# Altium schematic symbol library Isolator.SchLib: 419 symbols (part 2 of 5)
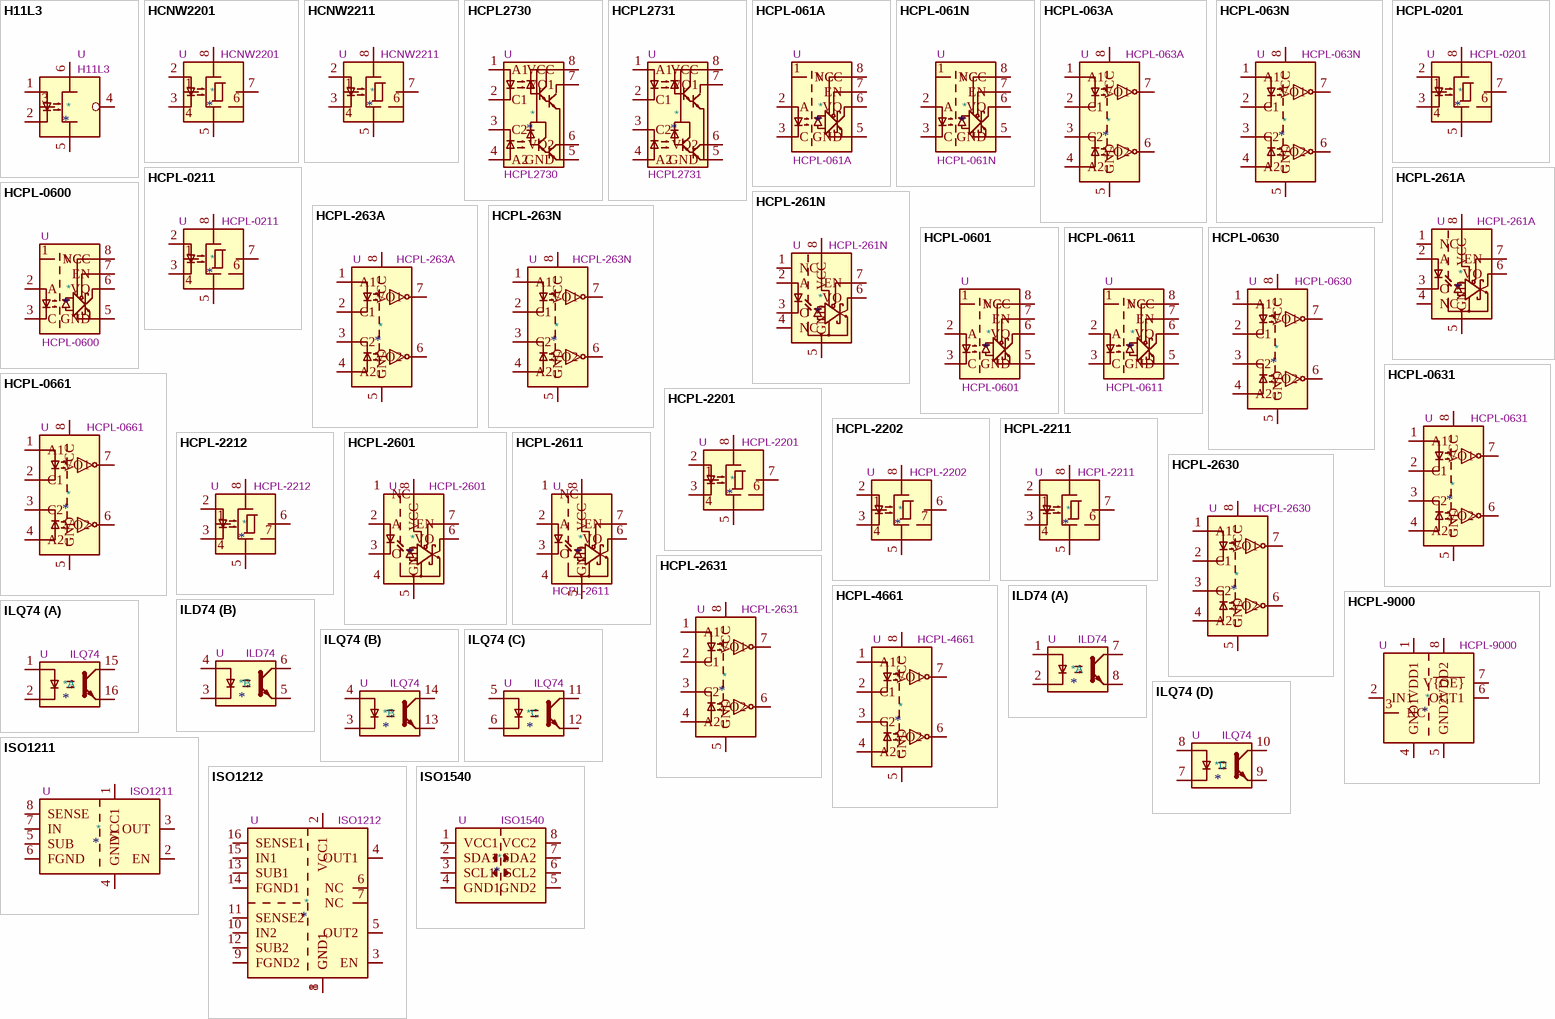
[diagram p13: symbols H11L3 to ISO1540]

## HCPL-0601
designator *  value HCPL-0601  Reference: U
Single High Speed LSTTL/TTL Compatible Optocoupler with enable, dV/dt 10000/us, VCM 1000, max 7V VCC, SOIC-8; ki_keywords: High speed optically coupled gates enable; ki_fp_filters: SOIC*3.9x4.9mm?P1.27mm*; Footprint: Package_SO:SOIC-8_3.9x4.9mm_P1.27mm; Datasheet: https://docs.broadcom.com/docs/AV02-0940EN; Description_: Single High Speed LSTTL/TTL Compatible Optocoupler with enable, dV/dt 10000/us, VCM 1000, max 7V VCC, SOIC-8
pins: 1 NC, 2 A, 3 C, 5 GND, 6 VO, 7 EN, 8 VCC

## HCPL-0611
designator *  value HCPL-0611  Reference: U
Single High Speed LSTTL/TTL Compatible Optocoupler with enable, dV/dt 15000/us, VCM 1000, max 7V VCC, SOIC-8; ki_keywords: High speed optically coupled gates enable; ki_fp_filters: SOIC*3.9x4.9mm?P1.27mm*; Footprint: Package_SO:SOIC-8_3.9x4.9mm_P1.27mm; Datasheet: https://docs.broadcom.com/docs/AV02-0940EN; Description_: Single High Speed LSTTL/TTL Compatible Optocoupler with enable, dV/dt 15000/us, VCM 1000, max 7V VCC, SOIC-8
pins: 1 NC, 2 A, 3 C, 5 GND, 6 VO, 7 EN, 8 VCC

## HCPL-0630
designator *  value HCPL-0630  Reference: U
Dual High Speed LSTTL/TTL Compatible Optocoupler, dV/dt 5000/us, VCM 1000, max 7V VCC, SOIC-8; ki_keywords: High speed optically coupled gates; ki_fp_filters: SOIC*3.9x4.9mm?P1.27mm*; Footprint: Package_SO:SOIC-8_3.9x4.9mm_P1.27mm; Datasheet: https://docs.broadcom.com/docs/AV02-0940EN; Description_: Dual High Speed LSTTL/TTL Compatible Optocoupler, dV/dt 5000/us, VCM 1000, max 7V VCC, SOIC-8
pins: 1 A1, 2 C1, 3 C2, 4 A2, 5 GND, 6 VO2, 7 VO1, 8 VCC

## HCPL-0631
designator *  value HCPL-0631  Reference: U
Dual High Speed LSTTL/TTL Compatible Optocoupler, dV/dt 10000/us, VCM 1000, max 7V VCC, SOIC-8; ki_keywords: High speed optically coupled gates; ki_fp_filters: SOIC*3.9x4.9mm?P1.27mm*; Footprint: Package_SO:SOIC-8_3.9x4.9mm_P1.27mm; Datasheet: https://docs.broadcom.com/docs/AV02-0940EN; Description_: Dual High Speed LSTTL/TTL Compatible Optocoupler, dV/dt 10000/us, VCM 1000, max 7V VCC, SOIC-8
pins: 1 A1, 2 C1, 3 C2, 4 A2, 5 GND, 6 VO2, 7 VO1, 8 VCC

## HCPL-0661
designator *  value HCPL-0661  Reference: U
Dual High Speed LSTTL/TTL Compatible Optocoupler, dV/dt 15000/us, VCM 1000, max 7V VCC, SOIC-8; ki_keywords: High speed optically coupled gates; ki_fp_filters: SOIC*3.9x4.9mm?P1.27mm*; Footprint: Package_SO:SOIC-8_3.9x4.9mm_P1.27mm; Datasheet: https://docs.broadcom.com/docs/AV02-0940EN; Description_: Dual High Speed LSTTL/TTL Compatible Optocoupler, dV/dt 15000/us, VCM 1000, max 7V VCC, SOIC-8
pins: 1 A1, 2 C1, 3 C2, 4 A2, 5 GND, 6 VO2, 7 VO1, 8 VCC

## HCPL-2201
designator *  value HCPL-2201  Reference: U
Opto Coupler, 1kV/us, 50V CMR, Schmitt trigger output, DIP-8; ki_keywords: opto coupler schmitt output; ki_fp_filters: DIP*W7.62mm*; Footprint: Package_DIP:DIP-8_W7.62mm; Datasheet: https://docs.broadcom.com/docs/AV02-0674EN; Description_: Opto Coupler, 1kV/us, 50V CMR, Schmitt trigger output, DIP-8
pins: 1, 2, 3, 4, 5, 6, 7, 8

## HCPL-2202
designator *  value HCPL-2202  Reference: U
Opto Coupler, 1kV/us, 50V CMR, Schmitt trigger output, DIP-8; ki_keywords: opto coupler schmitt output; ki_fp_filters: DIP*W7.62mm*; Footprint: Package_DIP:DIP-8_W7.62mm; Datasheet: https://docs.broadcom.com/docs/AV02-0674EN; Description_: Opto Coupler, 1kV/us, 50V CMR, Schmitt trigger output, DIP-8
pins: 1, 2, 3, 4, 5, 6, 7, 8

## HCPL-2211
designator *  value HCPL-2211  Reference: U
Opto Coupler, 5kV/us, 300V CMR, Schmitt trigger output, DIP-8; ki_keywords: opto coupler schmitt output; ki_fp_filters: DIP*W7.62mm*; Footprint: Package_DIP:DIP-8_W7.62mm; Datasheet: https://docs.broadcom.com/docs/AV02-0674EN; Description_: Opto Coupler, 5kV/us, 300V CMR, Schmitt trigger output, DIP-8
pins: 1, 2, 3, 4, 5, 6, 7, 8

## HCPL-2212
designator *  value HCPL-2212  Reference: U
Opto Coupler, 5kV/us, 300V CMR, Schmitt trigger output, DIP-8; ki_keywords: opto coupler schmitt output; ki_fp_filters: DIP*W7.62mm*; Footprint: Package_DIP:DIP-8_W7.62mm; Datasheet: https://docs.broadcom.com/docs/AV02-0674EN; Description_: Opto Coupler, 5kV/us, 300V CMR, Schmitt trigger output, DIP-8
pins: 1, 2, 3, 4, 5, 6, 7, 8

## HCPL-2601
designator *  value HCPL-2601  Reference: U
Single High Speed LSTTL/TTL Compatible Optocoupler with enable, dV/dt 10000V/us, VCM 1000, max 7V VCC, DIP-8; ki_keywords: High speed optically coupled gates enable; ki_fp_filters: DIP*W7.62mm*; Footprint: Package_DIP:DIP-8_W7.62mm; Datasheet: https://docs.broadcom.com/doc/6N137-HCNW137-2601-2611-HCPL-0600-0601-0611-0630-0631-0661-2601-2611-2630-2631-4661-High-CMR-High-Speed-TTL-Compatible-Optocouplers-DS; Description_: Single High Speed LSTTL/TTL Compatible Optocoupler with enable, dV/dt 10000V/us, VCM 1000, max 7V VCC, DIP-8
pins: 1 NC, 2 A, 3 C, 4, 5 GND, 6 VO, 7 EN, 8 VCC

## HCPL-2611
designator *  value HCPL-2611  Reference: U
Single High Speed LSTTL/TTL Compatible Optocoupler with enable, dV/dt 15000V/us, VCM 1000, max 7V VCC, DIP-8; ki_keywords: High speed optically coupled gates enable; ki_fp_filters: DIP*W7.62mm*; Footprint: Package_DIP:DIP-8_W7.62mm; Datasheet: https://docs.broadcom.com/doc/6N137-HCNW137-2601-2611-HCPL-0600-0601-0611-0630-0631-0661-2601-2611-2630-2631-4661-High-CMR-High-Speed-TTL-Compatible-Optocouplers-DS; Description_: Single High Speed LSTTL/TTL Compatible Optocoupler with enable, dV/dt 15000V/us, VCM 1000, max 7V VCC, DIP-8
pins: 1 NC, 2 A, 3 C, 4, 5 GND, 6 VO, 7 EN, 8 VCC

## HCPL-2630
designator *  value HCPL-2630  Reference: U
Dual High Speed LSTTL/TTL Compatible Optocoupler, dV/dt 5000/us, VCM 1000, max 7V VCC, DIP-8; ki_keywords: High speed optically coupled gates; ki_fp_filters: DIP*W7.62mm*; Footprint: Package_DIP:DIP-8_W7.62mm; Datasheet: https://docs.broadcom.com/docs/AV02-0940EN; Description_: Dual High Speed LSTTL/TTL Compatible Optocoupler, dV/dt 5000/us, VCM 1000, max 7V VCC, DIP-8
pins: 1 A1, 2 C1, 3 C2, 4 A2, 5 GND, 6 VO2, 7 VO1, 8 VCC

## HCPL-2631
designator *  value HCPL-2631  Reference: U
Dual High Speed LSTTL/TTL Compatible Optocoupler, dV/dt 10000/us, VCM 1000, max 7V VCC, DIP-8; ki_keywords: High speed optically coupled gates; ki_fp_filters: DIP*W7.62mm*; Footprint: Package_DIP:DIP-8_W7.62mm; Datasheet: https://docs.broadcom.com/docs/AV02-0940EN; Description_: Dual High Speed LSTTL/TTL Compatible Optocoupler, dV/dt 10000/us, VCM 1000, max 7V VCC, DIP-8
pins: 1 A1, 2 C1, 3 C2, 4 A2, 5 GND, 6 VO2, 7 VO1, 8 VCC

## HCPL-4661
designator *  value HCPL-4661  Reference: U
Dual High Speed LSTTL/TTL Compatible Optocoupler, dV/dt 15000/us, VCM 1000, max 7V VCC, DIP-8; ki_keywords: High speed optically coupled gates; ki_fp_filters: DIP*W7.62mm*; Footprint: Package_DIP:DIP-8_W7.62mm; Datasheet: https://docs.broadcom.com/docs/AV02-0940EN; Description_: Dual High Speed LSTTL/TTL Compatible Optocoupler, dV/dt 15000/us, VCM 1000, max 7V VCC, DIP-8
pins: 1 A1, 2 C1, 3 C2, 4 A2, 5 GND, 6 VO2, 7 VO1, 8 VCC

## HCPL-9000
designator *  value HCPL-9000  Reference: U
High Speed Digital Isolator, CMOS, excellent transient immunity, active-low logic output enable, DIP-8; ki_keywords: digital isolator, high speed; ki_fp_filters: DIP*W7.62mm*; Footprint: Package_DIP:DIP-8_W7.62mm; Datasheet: https://docs.broadcom.com/docs/AV02-0137EN; Description_: High Speed Digital Isolator, CMOS, excellent transient immunity, active-low logic output enable, DIP-8
pins: 1 VDD1, 2 IN1, 3 NC, 4 GND1, 5 GND2, 6 OUT1, 7 V~{{OE}}, 8 VDD2

## ILD74
designator *  value ILD74  Reference: U
Dual Optocoupler, NPN Phototransistor Output, TTL compatible, DIP8/SMD8; ki_keywords: NPN DC Dual Optocoupler; ki_fp_filters: DIP*W7.62mm* DIP*W10.16mm* SMDIP*W9.53mm*Clearance8mm*; Datasheet: https://www.vishay.com/docs/83640/ild74.pdf; Description_: Dual Optocoupler, NPN Phototransistor Output, TTL compatible, DIP8/SMD8
part A pins: 1, 2, 7, 8
part B pins: 3, 4, 5, 6

## ILQ74
designator *  value ILQ74  Reference: U
Quad Optocoupler, NPN Phototransistor Output, TTL compatible, DIP16/SMD16; ki_keywords: NPN DC Dual Optocoupler; ki_fp_filters: DIP*W7.62mm* DIP*W10.16mm* SMDIP*W9.53mm*Clearance8mm*; Datasheet: https://www.vishay.com/docs/83640/ild74.pdf; Description_: Quad Optocoupler, NPN Phototransistor Output, TTL compatible, DIP16/SMD16
part A pins: 1, 2, 15, 16
part B pins: 3, 4, 13, 14
part C pins: 5, 6, 11, 12
part D pins: 7, 8, 9, 10

## ISO1211
designator *  value ISO1211  Reference: U
Isolated, 1 Channel, 24 to 60V Digital Input Receiver, SOIC-8; ki_keywords: isolated digital input; ki_fp_filters: SOIC*3.9x4.9mm*P1.27mm*; Footprint: Package_SO:SOIC-8_3.9x4.9mm_P1.27mm; Datasheet: http://www.ti.com/lit/ds/symlink/iso1211.pdf; Description_: Isolated, 1 Channel, 24 to 60V Digital Input Receiver, SOIC-8
pins: 1 VCC1, 2 EN, 3 OUT, 4 GND1, 5 SUB, 6 FGND, 7 IN, 8 SENSE

## ISO1212
designator *  value ISO1212  Reference: U
Isolated, 2 Channels, 24 to 60V Digital Inputs Receiver, SSOP-16; ki_keywords: isolated digital input; ki_fp_filters: SSOP*3.9x4.9mm*P0.635mm*; Footprint: Package_SO:SSOP-16_3.9x4.9mm_P0.635mm; Datasheet: http://www.ti.com/lit/ds/symlink/iso1212.pdf; Description_: Isolated, 2 Channels, 24 to 60V Digital Inputs Receiver, SSOP-16
pins: 1 GND1, 2 VCC1, 3 EN, 4 OUT1, 5 OUT2, 6 NC, 7 NC, 8 GND1, 9 FGND2, 10 IN2, 11 SENSE2, 12 SUB2, 13 SUB1, 14 FGND1, 15 IN1, 16 SENSE1

## ISO1540
designator *  value ISO1540  Reference: U
I2C Isolator, 2.5 kVrms, Bidirectional clock and data, SOIC-8; ki_keywords: digital isolator i2c; ki_fp_filters: SOIC*3.9x4.9mm*P1.27mm*; Footprint: Package_SO:SOIC-8_3.9x4.9mm_P1.27mm; Datasheet: http://www.ti.com/lit/ds/symlink/iso1541.pdf; Description_: I2C Isolator, 2.5 kVrms, Bidirectional clock and data, SOIC-8
pins: 1 VCC1, 2 SDA1, 3 SCL1, 4 GND1, 5 GND2, 6 SCL2, 7 SDA2, 8 VCC2

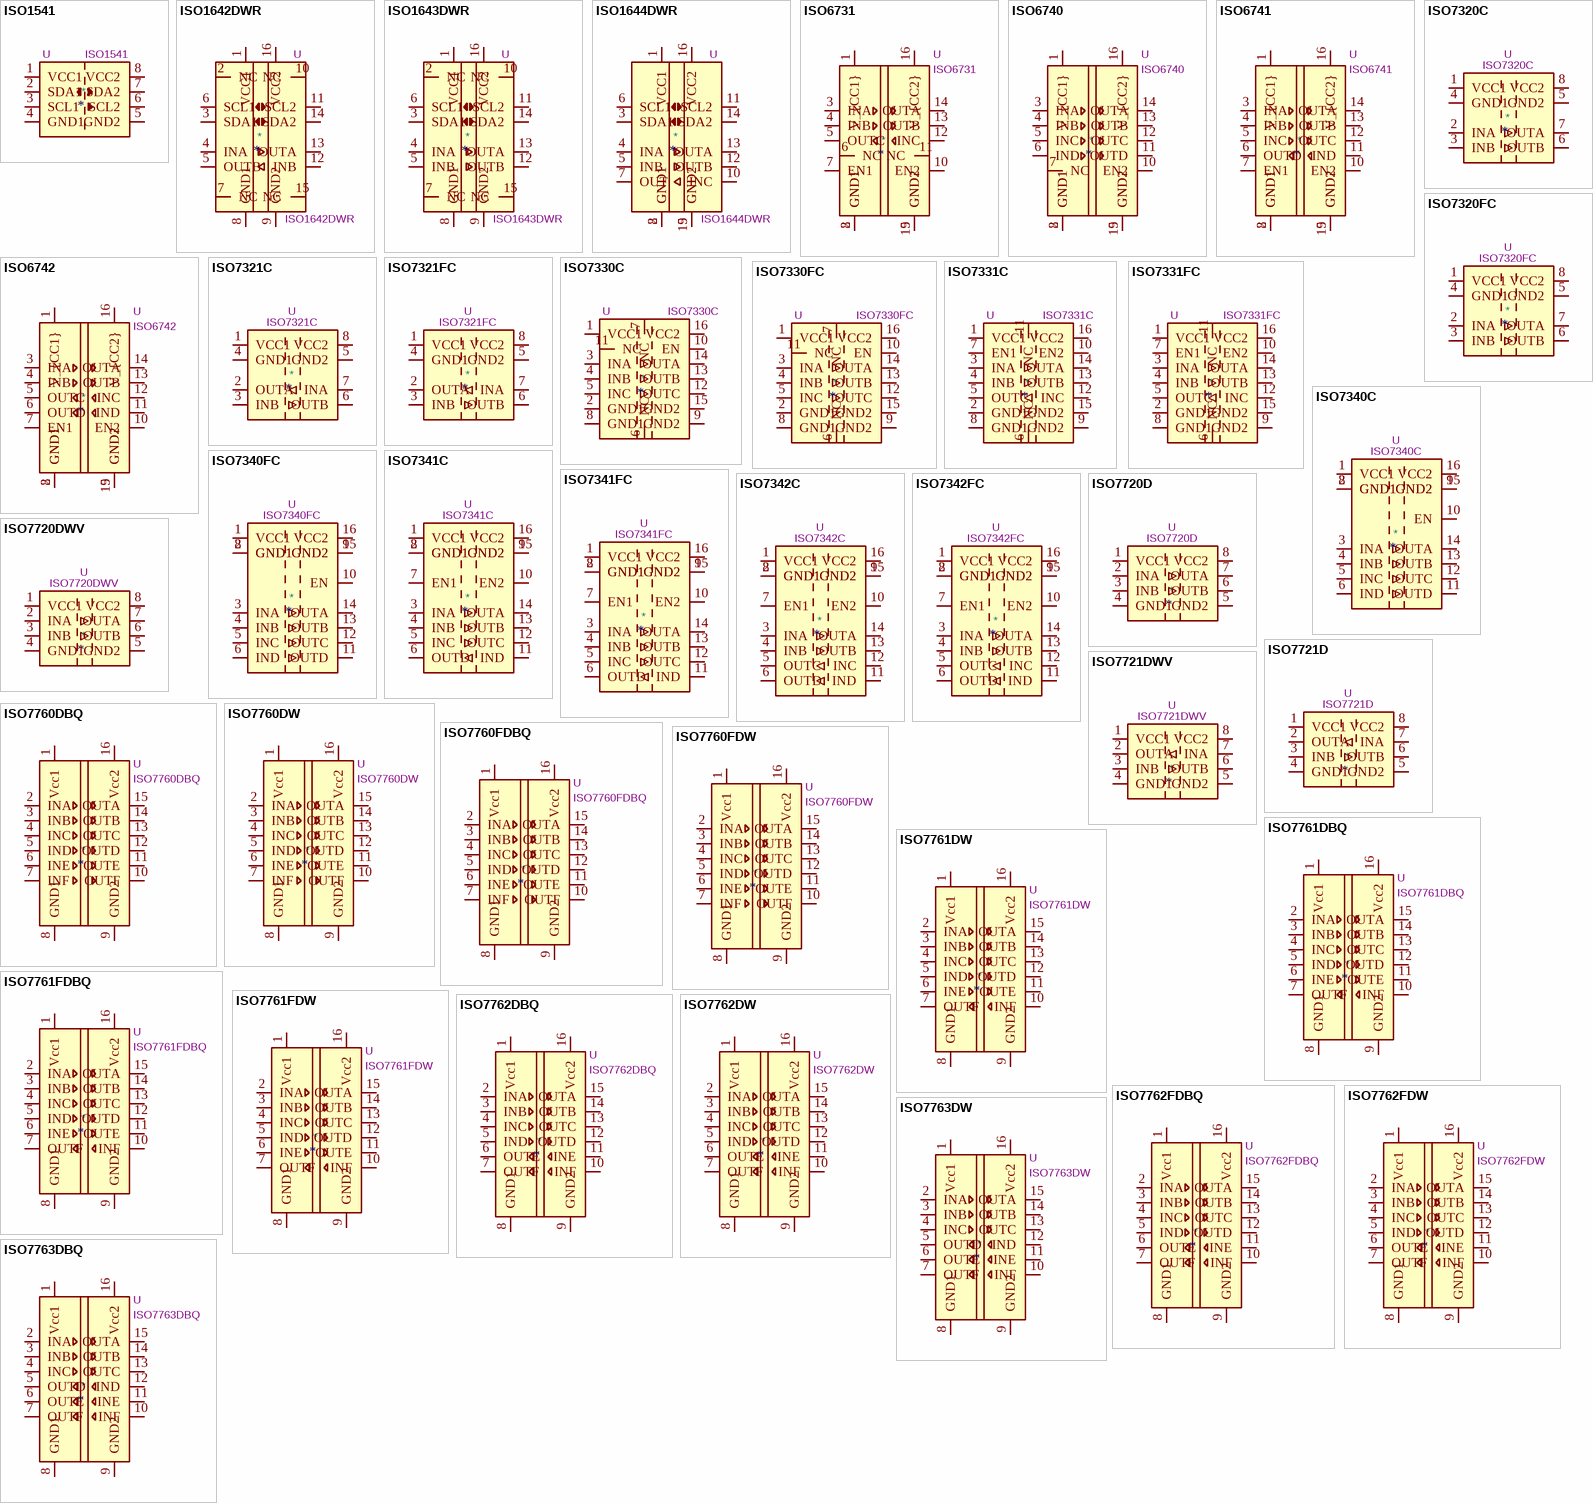
[diagram p3: symbols ISO1541 to ISO7763DW]

## ISO1541
designator *  value ISO1541  Reference: U
I2C Isolator, 2.5 kVrms, Unidirectional Clock, Bidirectional data, SOIC-8; ki_keywords: digital isolator i2c; ki_fp_filters: SOIC*3.9x4.9mm*P1.27mm*; Footprint: Package_SO:SOIC-8_3.9x4.9mm_P1.27mm; Datasheet: http://www.ti.com/lit/ds/symlink/iso1541.pdf; Description_: I2C Isolator, 2.5 kVrms, Unidirectional Clock, Bidirectional data, SOIC-8
pins: 1 VCC1, 2 SDA1, 3 SCL1, 4 GND1, 5 GND2, 6 SCL2, 7 SDA2, 8 VCC2

## ISO1642DWR
designator *  value ISO1642DWR  Reference: U
I2C Isolator with Bidirectional Clock and Data and two 1/1 Auxiliary GPIOs, SOIC-16; ki_keywords: i2c isolator additional gpio; ki_fp_filters: SOIC*7.5x10.3mm*P1.27mm*; Footprint: Package_SO:SOIC-16W_7.5x10.3mm_P1.27mm; Datasheet: https://www.ti.com/lit/ds/symlink/iso1642.pdf; Description_: I2C Isolator with Bidirectional Clock and Data and two 1/1 Auxiliary GPIOs, SOIC-16
pins: 1 VCC1, 2 NC, 3 SDA1, 4 INA, 5 OUTB, 6 SCL1, 7 NC, 8 GND1, 9 GND2, 10 NC, 11 SCL2, 12 INB, 13 OUTA, 14 SDA2, 15 NC, 16 VCC2

## ISO1643DWR
designator *  value ISO1643DWR  Reference: U
I2C Isolator with Bidirectional Clock and Data and two 2/0 Auxiliary GPIOs, SOIC-16; ki_keywords: i2c isolator additional gpio; ki_fp_filters: SOIC*7.5x10.3mm*P1.27mm*; Footprint: Package_SO:SOIC-16W_7.5x10.3mm_P1.27mm; Datasheet: https://www.ti.com/lit/ds/symlink/iso1643.pdf; Description_: I2C Isolator with Bidirectional Clock and Data and two 2/0 Auxiliary GPIOs, SOIC-16
pins: 1 VCC1, 2 NC, 3 SDA1, 4 INA, 5 INB, 6 SCL1, 7 NC, 8 GND1, 9 GND2, 10 NC, 11 SCL2, 12 OUTB, 13 OUTA, 14 SDA2, 15 NC, 16 VCC2

## ISO1644DWR
designator *  value ISO1644DWR  Reference: U
I2C Isolator with Bidirectional Clock and Data and three 2/1 Auxiliary GPIOs, SOIC-16; ki_keywords: i2c isolator additional gpio; ki_fp_filters: SOIC*7.5x10.3mm*P1.27mm*; Footprint: Package_SO:SOIC-16W_7.5x10.3mm_P1.27mm; Datasheet: https://www.ti.com/lit/ds/symlink/iso1644.pdf; Description_: I2C Isolator with Bidirectional Clock and Data and three 2/1 Auxiliary GPIOs, SOIC-16
pins: 1 VCC1, 2 GND1, 3 SDA1, 4 INA, 5 INB, 6 SCL1, 7 OUT, 8 GND1, 9 GND2, 10 INC, 11 SCL2, 12 OUTB, 13 OUTA, 14 SDA2, 15 GND2, 16 VCC2

## ISO6731
designator *  value ISO6731  Reference: U
General-purpose, triple-channel, 2/1, digital isolator; ki_keywords: 3 channel digital isolator; ki_fp_filters: SOIC*7.5x10.3mm*P1.27mm*; Footprint: Package_SO:SOIC-16W_7.5x10.3mm_P1.27mm; Datasheet: https://www.ti.com/lit/ds/symlink/iso6731.pdf; Description_: General-purpose, triple-channel, 2/1, digital isolator
pins: 1 V_{CC1}, 2 GND1, 3 INA, 4 INB, 5 OUTC, 6 NC, 7 EN1, 8 GND1, 9 GND2, 10 EN2, 11 NC, 12 INC, 13 OUTB, 14 OUTA, 15 GND2, 16 V_{CC2}

## ISO6740
designator *  value ISO6740  Reference: U
General-purpose, quad-channel, 4/0 digital isolator; ki_keywords: 4 channel digital isolator; ki_fp_filters: SOIC*7.5x10.3mm*P1.27mm*; Footprint: Package_SO:SOIC-16W_7.5x10.3mm_P1.27mm; Datasheet: https://www.ti.com/lit/ds/symlink/iso6740.pdf; Description_: General-purpose, quad-channel, 4/0 digital isolator
pins: 1 V_{CC1}, 2 GND1, 3 INA, 4 INB, 5 INC, 6 IND, 7 NC, 8 GND1, 9 GND2, 10 EN2, 11 OUTD, 12 OUTC, 13 OUTB, 14 OUTA, 15 GND2, 16 V_{CC2}

## ISO6741
designator *  value ISO6741  Reference: U
General-purpose, quad-channel, 3/1 digital isolator; ki_keywords: 4 channel digital isolator; ki_fp_filters: SOIC*7.5x10.3mm*P1.27mm*; Footprint: Package_SO:SOIC-16W_7.5x10.3mm_P1.27mm; Datasheet: https://www.ti.com/lit/ds/symlink/iso6741.pdf; Description_: General-purpose, quad-channel, 3/1 digital isolator
pins: 1 V_{CC1}, 2 GND1, 3 INA, 4 INB, 5 INC, 6 OUTD, 7 EN1, 8 GND1, 9 GND2, 10 EN2, 11 IND, 12 OUTC, 13 OUTB, 14 OUTA, 15 GND2, 16 V_{CC2}

## ISO6742
designator *  value ISO6742  Reference: U
General-purpose, quad-channel, 2/2 digital isolator; ki_keywords: 4 channel digital isolator; ki_fp_filters: SOIC*7.5x10.3mm*P1.27mm*; Footprint: Package_SO:SOIC-16W_7.5x10.3mm_P1.27mm; Datasheet: https://www.ti.com/lit/ds/symlink/iso6742.pdf; Description_: General-purpose, quad-channel, 2/2 digital isolator
pins: 1 V_{CC1}, 2 GND1, 3 INA, 4 INB, 5 OUTC, 6 OUTD, 7 EN1, 8 GND1, 9 GND2, 10 EN2, 11 IND, 12 INC, 13 OUTB, 14 OUTA, 15 GND2, 16 V_{CC2}

## ISO7320C
designator *  value ISO7320C  Reference: U
Low Power Dual-Channel 2/0 Digital Isolator, 25Mbps 33ns, Fail-Safe High, SO8; ki_keywords: 2Ch Dual Digital Isolator 25Mbps; ki_fp_filters: SO*; Footprint: Package_SO:SOIC-8_3.9x4.9mm_P1.27mm; Datasheet: http://www.ti.com/general/docs/lit/getliterature.tsp?genericPartNumber=iso7320c&fileType=pdf; Description_: Low Power Dual-Channel 2/0 Digital Isolator, 25Mbps 33ns, Fail-Safe High, SO8
pins: 1 VCC1, 2 INA, 3 INB, 4 GND1, 5 GND2, 6 OUTB, 7 OUTA, 8 VCC2

## ISO7320FC
designator *  value ISO7320FC  Reference: U
Low Power Dual-Channel 2/0 Digital Isolator, 25Mbps 33ns, Fail-Safe Low, SO8; ki_keywords: 2Ch Dual Digital Isolator 25Mbps; ki_fp_filters: SO*; Footprint: Package_SO:SOIC-8_3.9x4.9mm_P1.27mm; Datasheet: http://www.ti.com/general/docs/lit/getliterature.tsp?genericPartNumber=iso7320fc&fileType=pdf; Description_: Low Power Dual-Channel 2/0 Digital Isolator, 25Mbps 33ns, Fail-Safe Low, SO8
pins: 1 VCC1, 2 INA, 3 INB, 4 GND1, 5 GND2, 6 OUTB, 7 OUTA, 8 VCC2

## ISO7321C
designator *  value ISO7321C  Reference: U
Low Power Dual-Channel 1/1 Digital Isolator, 25Mbps 33ns, Fail-Safe High, SO8; ki_keywords: 2Ch Dual Digital Isolator 25Mbps; ki_fp_filters: SO*; Footprint: Package_SO:SOIC-8_3.9x4.9mm_P1.27mm; Datasheet: http://www.ti.com/general/docs/lit/getliterature.tsp?genericPartNumber=iso7321c&fileType=pdf; Description_: Low Power Dual-Channel 1/1 Digital Isolator, 25Mbps 33ns, Fail-Safe High, SO8
pins: 1 VCC1, 2 OUTA, 3 INB, 4 GND1, 5 GND2, 6 OUTB, 7 INA, 8 VCC2

## ISO7321FC
designator *  value ISO7321FC  Reference: U
Low Power Dual-Channel 1/1 Digital Isolator, 25Mbps 33ns, Fail-Safe Low, SO8; ki_keywords: 2Ch Dual Digital Isolator 25Mbps; ki_fp_filters: SO*; Footprint: Package_SO:SOIC-8_3.9x4.9mm_P1.27mm; Datasheet: http://www.ti.com/general/docs/lit/getliterature.tsp?genericPartNumber=iso7321fc&fileType=pdf; Description_: Low Power Dual-Channel 1/1 Digital Isolator, 25Mbps 33ns, Fail-Safe Low, SO8
pins: 1 VCC1, 2 OUTA, 3 INB, 4 GND1, 5 GND2, 6 OUTB, 7 INA, 8 VCC2

## ISO7330C
designator *  value ISO7330C  Reference: U
Low Power Quad-Channel 3/0 Digital Isolator, 25Mbps 31ns, Fail-Safe High, SO16; ki_keywords: 3Ch Quad Digital Isolator 25Mbps; ki_fp_filters: SOIC*7.5x10.3mm*P1.27mm*; Footprint: Package_SO:SOIC-16W_7.5x10.3mm_P1.27mm; Datasheet: http://www.ti.com/lit/ds/symlink/iso7330-q1.pdf; Description_: Low Power Quad-Channel 3/0 Digital Isolator, 25Mbps 31ns, Fail-Safe High, SO16
pins: 1 VCC1, 2 GND1, 3 INA, 4 INB, 5 INC, 6 NC, 7 NC, 8 GND1, 9 GND2, 10 EN, 11 NC, 12 OUTC, 13 OUTB, 14 OUTA, 15 GND2, 16 VCC2

## ISO7330FC
designator *  value ISO7330FC  Reference: U
Low Power Quad-Channel 3/0 Digital Isolator, 25Mbps 31ns, Fail-Safe Low, SO16; ki_keywords: 3Ch Quad Digital Isolator 25Mbps; ki_fp_filters: SOIC*7.5x10.3mm*P1.27mm*; Footprint: Package_SO:SOIC-16W_7.5x10.3mm_P1.27mm; Datasheet: http://www.ti.com/lit/ds/symlink/iso7330-q1.pdf; Description_: Low Power Quad-Channel 3/0 Digital Isolator, 25Mbps 31ns, Fail-Safe Low, SO16
pins: 1 VCC1, 2 GND1, 3 INA, 4 INB, 5 INC, 6 NC, 7 NC, 8 GND1, 9 GND2, 10 EN, 11 NC, 12 OUTC, 13 OUTB, 14 OUTA, 15 GND2, 16 VCC2

## ISO7331C
designator *  value ISO7331C  Reference: U
Low Power Quad-Channel 2/1 Digital Isolator, 25Mbps 31ns, Fail-Safe High, SO16; ki_keywords: 3Ch Quad Digital Isolator 25Mbps; ki_fp_filters: SOIC*7.5x10.3mm*P1.27mm*; Footprint: Package_SO:SOIC-16W_7.5x10.3mm_P1.27mm; Datasheet: http://www.ti.com/lit/ds/symlink/iso7331c.pdf; Description_: Low Power Quad-Channel 2/1 Digital Isolator, 25Mbps 31ns, Fail-Safe High, SO16
pins: 1 VCC1, 2 GND1, 3 INA, 4 INB, 5 OUTC, 6 NC, 7 EN1, 8 GND1, 9 GND2, 10 EN2, 11 NC, 12 INC, 13 OUTB, 14 OUTA, 15 GND2, 16 VCC2

## ISO7331FC
designator *  value ISO7331FC  Reference: U
Low Power Quad-Channel 2/1 Digital Isolator, 25Mbps 31ns, Fail-Safe Low, SO16; ki_keywords: 3Ch Quad Digital Isolator 25Mbps; ki_fp_filters: SOIC*7.5x10.3mm*P1.27mm*; Footprint: Package_SO:SOIC-16W_7.5x10.3mm_P1.27mm; Datasheet: http://www.ti.com/general/docs/lit/getliterature.tsp?genericPartNumber=iso7341c&fileType=pdf; Description_: Low Power Quad-Channel 2/1 Digital Isolator, 25Mbps 31ns, Fail-Safe Low, SO16
pins: 1 VCC1, 2 GND1, 3 INA, 4 INB, 5 OUTC, 6 NC, 7 EN1, 8 GND1, 9 GND2, 10 EN2, 11 NC, 12 INC, 13 OUTB, 14 OUTA, 15 GND2, 16 VCC2

## ISO7340C
designator *  value ISO7340C  Reference: U
Low Power Quad-Channel 4/0 Digital Isolator, 25Mbps 31ns, Fail-Safe High, SO16; ki_keywords: 4Ch Quad Digital Isolator 25Mbps; ki_fp_filters: SO*; Footprint: Package_SO:SOIC-16W_7.5x10.3mm_P1.27mm; Datasheet: http://www.ti.com/general/docs/lit/getliterature.tsp?genericPartNumber=iso7340c&fileType=pdf; Description_: Low Power Quad-Channel 4/0 Digital Isolator, 25Mbps 31ns, Fail-Safe High, SO16
pins: 1 VCC1, 2 GND1, 3 INA, 4 INB, 5 INC, 6 IND, 8 GND1, 9 GND2, 10 EN, 11 OUTD, 12 OUTC, 13 OUTB, 14 OUTA, 15 GND2, 16 VCC2

## ISO7340FC
designator *  value ISO7340FC  Reference: U
Low Power Quad-Channel 4/0 Digital Isolator, 25Mbps 31ns, Fail-Safe Low, SO16; ki_keywords: 4Ch Quad Digital Isolator 25Mbps; ki_fp_filters: SO*; Footprint: Package_SO:SOIC-16W_7.5x10.3mm_P1.27mm; Datasheet: http://www.ti.com/general/docs/lit/getliterature.tsp?genericPartNumber=iso7340fc&fileType=pdf; Description_: Low Power Quad-Channel 4/0 Digital Isolator, 25Mbps 31ns, Fail-Safe Low, SO16
pins: 1 VCC1, 2 GND1, 3 INA, 4 INB, 5 INC, 6 IND, 8 GND1, 9 GND2, 10 EN, 11 OUTD, 12 OUTC, 13 OUTB, 14 OUTA, 15 GND2, 16 VCC2

## ISO7341C
designator *  value ISO7341C  Reference: U
Low Power Quad-Channel 3/1 Digital Isolator, 25Mbps 31ns, Fail-Safe High, SO16; ki_keywords: 4Ch Quad Digital Isolator 25Mbps; ki_fp_filters: SO*; Footprint: Package_SO:SOIC-16W_7.5x10.3mm_P1.27mm; Datasheet: http://www.ti.com/general/docs/lit/getliterature.tsp?genericPartNumber=iso7341c&fileType=pdf; Description_: Low Power Quad-Channel 3/1 Digital Isolator, 25Mbps 31ns, Fail-Safe High, SO16
pins: 1 VCC1, 2 GND1, 3 INA, 4 INB, 5 INC, 6 OUTD, 7 EN1, 8 GND1, 9 GND2, 10 EN2, 11 IND, 12 OUTC, 13 OUTB, 14 OUTA, 15 GND2, 16 VCC2

## ISO7341FC
designator *  value ISO7341FC  Reference: U
Low Power Quad-Channel 3/1 Digital Isolator, 25Mbps 31ns, Fail-Safe Low, SO16; ki_keywords: 4Ch Quad Digital Isolator 25Mbps; ki_fp_filters: SO*; Footprint: Package_SO:SOIC-16W_7.5x10.3mm_P1.27mm; Datasheet: http://www.ti.com/general/docs/lit/getliterature.tsp?genericPartNumber=iso7341fc&fileType=pdf; Description_: Low Power Quad-Channel 3/1 Digital Isolator, 25Mbps 31ns, Fail-Safe Low, SO16
pins: 1 VCC1, 2 GND1, 3 INA, 4 INB, 5 INC, 6 OUTD, 7 EN1, 8 GND1, 9 GND2, 10 EN2, 11 IND, 12 OUTC, 13 OUTB, 14 OUTA, 15 GND2, 16 VCC2

## ISO7342C
designator *  value ISO7342C  Reference: U
Low Power Quad-Channel 2/2 Digital Isolator, 25Mbps 31ns, Fail-Safe High, SO16; ki_keywords: 4Ch Quad Digital Isolator 25Mbps; ki_fp_filters: SO*; Footprint: Package_SO:SOIC-16W_7.5x10.3mm_P1.27mm; Datasheet: http://www.ti.com/general/docs/lit/getliterature.tsp?genericPartNumber=iso7342c&fileType=pdf; Description_: Low Power Quad-Channel 2/2 Digital Isolator, 25Mbps 31ns, Fail-Safe High, SO16
pins: 1 VCC1, 2 GND1, 3 INA, 4 INB, 5 OUTC, 6 OUTD, 7 EN1, 8 GND1, 9 GND2, 10 EN2, 11 IND, 12 INC, 13 OUTB, 14 OUTA, 15 GND2, 16 VCC2

## ISO7342FC
designator *  value ISO7342FC  Reference: U
Low Power Quad-Channel 2/2 Digital Isolator, 25Mbps 31ns, Fail-Safe Low, SO16; ki_keywords: 4Ch Quad Digital Isolator 25Mbps; ki_fp_filters: SO*; Footprint: Package_SO:SOIC-16W_7.5x10.3mm_P1.27mm; Datasheet: http://www.ti.com/general/docs/lit/getliterature.tsp?genericPartNumber=iso7342fc&fileType=pdf; Description_: Low Power Quad-Channel 2/2 Digital Isolator, 25Mbps 31ns, Fail-Safe Low, SO16
pins: 1 VCC1, 2 GND1, 3 INA, 4 INB, 5 OUTC, 6 OUTD, 7 EN1, 8 GND1, 9 GND2, 10 EN2, 11 IND, 12 INC, 13 OUTB, 14 OUTA, 15 GND2, 16 VCC2

## ISO7720D
designator *  value ISO7720D  Reference: U
Low Power Dual-Channel 2/0 Digital Isolator, 100Mbps 11ns, Fail-Safe High, SOIC-8 (150mil); ki_keywords: 2Ch Dual Digital Isolator 100Mbps; ki_fp_filters: *SOIC*3.9x4.9mm*P1.27mm*; Footprint: Package_SO:SOIC-8_3.9x4.9mm_P1.27mm; Datasheet: https://www.ti.com/lit/ds/symlink/iso7720.pdf; Description_: Low Power Dual-Channel 2/0 Digital Isolator, 100Mbps 11ns, Fail-Safe High, SOIC-8 (150mil)
pins: 1 VCC1, 2 INA, 3 INB, 4 GND1, 5 GND2, 6 OUTB, 7 OUTA, 8 VCC2

## ISO7720DWV
designator *  value ISO7720DWV  Reference: U
Low Power Dual-Channel 2/0 Digital Isolator, 100Mbps 11ns, Fail-Safe High, SOIC-8 (300mil); ki_keywords: 2Ch Dual Digital Isolator 100Mbps; ki_fp_filters: *SOIC*7.5x5.85mm*P1.27mm*; Footprint: Package_SO:SOIC-8_7.5x5.85mm_P1.27mm; Datasheet: https://www.ti.com/lit/ds/symlink/iso7720.pdf; Description_: Low Power Dual-Channel 2/0 Digital Isolator, 100Mbps 11ns, Fail-Safe High, SOIC-8 (300mil)
pins: 1 VCC1, 2 INA, 3 INB, 4 GND1, 5 GND2, 6 OUTB, 7 OUTA, 8 VCC2

## ISO7721D
designator *  value ISO7721D  Reference: U
Low Power Dual-Channel 1/1 Digital Isolator, 100Mbps 11ns, Fail-Safe High, SOIC-8 (150mil); ki_keywords: 2Ch Dual Digital Isolator 100Mbps; ki_fp_filters: *SOIC*3.9x4.9mm*P1.27mm*; Footprint: Package_SO:SOIC-8_3.9x4.9mm_P1.27mm; Datasheet: https://www.ti.com/lit/ds/symlink/iso7721.pdf; Description_: Low Power Dual-Channel 1/1 Digital Isolator, 100Mbps 11ns, Fail-Safe High, SOIC-8 (150mil)
pins: 1 VCC1, 2 OUTA, 3 INB, 4 GND1, 5 GND2, 6 OUTB, 7 INA, 8 VCC2

## ISO7721DWV
designator *  value ISO7721DWV  Reference: U
Low Power Dual-Channel 1/1 Digital Isolator, 100Mbps 11ns, Fail-Safe High, SOIC-8 (300mil); ki_keywords: 2Ch Dual Digital Isolator 100Mbps; ki_fp_filters: *SOIC*7.5x5.85mm*P1.27mm*; Footprint: Package_SO:SOIC-8_7.5x5.85mm_P1.27mm; Datasheet: https://www.ti.com/lit/ds/symlink/iso7721.pdf; Description_: Low Power Dual-Channel 1/1 Digital Isolator, 100Mbps 11ns, Fail-Safe High, SOIC-8 (300mil)
pins: 1 VCC1, 2 OUTA, 3 INB, 4 GND1, 5 GND2, 6 OUTB, 7 INA, 8 VCC2

## ISO7760DBQ
designator *  value ISO7760DBQ  Reference: U
Default high, High-speed, robust EMC, reinforced, six-channel, digital, isolator, SSOP-16; ki_keywords: 6 channel digital isolator; ki_fp_filters: SSOP*3.9x4.9mm*P0.635mm*; Footprint: Package_SO:SSOP-16_3.9x4.9mm_P0.635mm; Datasheet: https://www.ti.com/lit/ds/symlink/iso7763.pdf; Description_: Default high, High-speed, robust EMC, reinforced, six-channel, digital, isolator, SSOP-16
pins: 1 Vcc1, 2 INA, 3 INB, 4 INC, 5 IND, 6 INE, 7 INF, 8 GND1, 9 GND2, 10 OUTF, 11 OUTE, 12 OUTD, 13 OUTC, 14 OUTB, 15 OUTA, 16 Vcc2

## ISO7760DW
designator *  value ISO7760DW  Reference: U
Default high, High-speed, robust EMC, reinforced, six-channel, digital, isolator, SOIC-16; ki_keywords: 6 channel digital isolator; ki_fp_filters: SOIC*7.5x10.3mm*P1.27mm*; Footprint: Package_SO:SOIC-16W_7.5x10.3mm_P1.27mm; Datasheet: https://www.ti.com/lit/ds/symlink/iso7763.pdf; Description_: Default high, High-speed, robust EMC, reinforced, six-channel, digital, isolator, SOIC-16
pins: 1 Vcc1, 2 INA, 3 INB, 4 INC, 5 IND, 6 INE, 7 INF, 8 GND1, 9 GND2, 10 OUTF, 11 OUTE, 12 OUTD, 13 OUTC, 14 OUTB, 15 OUTA, 16 Vcc2

## ISO7760FDBQ
designator *  value ISO7760FDBQ  Reference: U
Default low, High-speed, robust EMC, reinforced, six-channel, digital, isolator, SSOP-16; ki_keywords: 6 channel digital isolator; ki_fp_filters: SSOP*3.9x4.9mm*P0.635mm*; Footprint: Package_SO:SSOP-16_3.9x4.9mm_P0.635mm; Datasheet: https://www.ti.com/lit/ds/symlink/iso7763.pdf?ts=1596905577895; Description_: Default low, High-speed, robust EMC, reinforced, six-channel, digital, isolator, SSOP-16
pins: 1 Vcc1, 2 INA, 3 INB, 4 INC, 5 IND, 6 INE, 7 INF, 8 GND1, 9 GND2, 10 OUTF, 11 OUTE, 12 OUTD, 13 OUTC, 14 OUTB, 15 OUTA, 16 Vcc2

## ISO7760FDW
designator *  value ISO7760FDW  Reference: U
Default low, High-speed, robust EMC, reinforced, six-channel, digital, isolator, SOIC-16; ki_keywords: 6 channel digital isolator; ki_fp_filters: SOIC*7.5x10.3mm*P1.27mm*; Footprint: Package_SO:SOIC-16W_7.5x10.3mm_P1.27mm; Datasheet: https://www.ti.com/lit/ds/symlink/iso7763.pdf?ts=1596905577895; Description_: Default low, High-speed, robust EMC, reinforced, six-channel, digital, isolator, SOIC-16
pins: 1 Vcc1, 2 INA, 3 INB, 4 INC, 5 IND, 6 INE, 7 INF, 8 GND1, 9 GND2, 10 OUTF, 11 OUTE, 12 OUTD, 13 OUTC, 14 OUTB, 15 OUTA, 16 Vcc2

## ISO7761DBQ
designator *  value ISO7761DBQ  Reference: U
Default high, High-speed, robust EMC, reinforced, six-channel, digital, isolator, SSOP-16; ki_keywords: 6 channel digital isolator; ki_fp_filters: SSOP*3.9x4.9mm*P0.635mm*; Footprint: Package_SO:SSOP-16_3.9x4.9mm_P0.635mm; Datasheet: https://www.ti.com/lit/ds/symlink/iso7763.pdf; Description_: Default high, High-speed, robust EMC, reinforced, six-channel, digital, isolator, SSOP-16
pins: 1 Vcc1, 2 INA, 3 INB, 4 INC, 5 IND, 6 INE, 7 OUTF, 8 GND1, 9 GND2, 10 INF, 11 OUTE, 12 OUTD, 13 OUTC, 14 OUTB, 15 OUTA, 16 Vcc2

## ISO7761DW
designator *  value ISO7761DW  Reference: U
Default high, High-speed, robust EMC, reinforced, six-channel, digital, isolator, SOIC-16; ki_keywords: 6 channel digital isolator; ki_fp_filters: SOIC*7.5x10.3mm*P1.27mm*; Footprint: Package_SO:SOIC-16W_7.5x10.3mm_P1.27mm; Datasheet: https://www.ti.com/lit/ds/symlink/iso7763.pdf; Description_: Default high, High-speed, robust EMC, reinforced, six-channel, digital, isolator, SOIC-16
pins: 1 Vcc1, 2 INA, 3 INB, 4 INC, 5 IND, 6 INE, 7 OUTF, 8 GND1, 9 GND2, 10 INF, 11 OUTE, 12 OUTD, 13 OUTC, 14 OUTB, 15 OUTA, 16 Vcc2

## ISO7761FDBQ
designator *  value ISO7761FDBQ  Reference: U
Default low, High-speed, robust EMC, reinforced, six-channel, digital, isolator, SSOP-16; ki_keywords: 6 channel digital isolator; ki_fp_filters: SSOP*3.9x4.9mm*P0.635mm*; Footprint: Package_SO:SSOP-16_3.9x4.9mm_P0.635mm; Datasheet: https://www.ti.com/lit/ds/symlink/iso7763.pdf?ts=1596905577895; Description_: Default low, High-speed, robust EMC, reinforced, six-channel, digital, isolator, SSOP-16
pins: 1 Vcc1, 2 INA, 3 INB, 4 INC, 5 IND, 6 INE, 7 OUTF, 8 GND1, 9 GND2, 10 INF, 11 OUTE, 12 OUTD, 13 OUTC, 14 OUTB, 15 OUTA, 16 Vcc2

## ISO7761FDW
designator *  value ISO7761FDW  Reference: U
Default low, High-speed, robust EMC, reinforced, six-channel, digital, isolator, SOIC-16; ki_keywords: 6 channel digital isolator; ki_fp_filters: SOIC*7.5x10.3mm*P1.27mm*; Footprint: Package_SO:SOIC-16W_7.5x10.3mm_P1.27mm; Datasheet: https://www.ti.com/lit/ds/symlink/iso7763.pdf?ts=1596905577895; Description_: Default low, High-speed, robust EMC, reinforced, six-channel, digital, isolator, SOIC-16
pins: 1 Vcc1, 2 INA, 3 INB, 4 INC, 5 IND, 6 INE, 7 OUTF, 8 GND1, 9 GND2, 10 INF, 11 OUTE, 12 OUTD, 13 OUTC, 14 OUTB, 15 OUTA, 16 Vcc2

## ISO7762DBQ
designator *  value ISO7762DBQ  Reference: U
Default high, High-speed, robust EMC, reinforced, six-channel, digital, isolator, SSOP-16; ki_keywords: 6 channel digital isolator; ki_fp_filters: SSOP*3.9x4.9mm*P0.635mm*; Footprint: Package_SO:SSOP-16_3.9x4.9mm_P0.635mm; Datasheet: https://www.ti.com/lit/ds/symlink/iso7763.pdf; Description_: Default high, High-speed, robust EMC, reinforced, six-channel, digital, isolator, SSOP-16
pins: 1 Vcc1, 2 INA, 3 INB, 4 INC, 5 IND, 6 OUTE, 7 OUTF, 8 GND1, 9 GND2, 10 INF, 11 INE, 12 OUTD, 13 OUTC, 14 OUTB, 15 OUTA, 16 Vcc2

## ISO7762DW
designator *  value ISO7762DW  Reference: U
Default high, High-speed, robust EMC, reinforced, six-channel, digital, isolator, SOIC-16; ki_keywords: 6 channel digital isolator; ki_fp_filters: SOIC*7.5x10.3mm*P1.27mm*; Footprint: Package_SO:SOIC-16W_7.5x10.3mm_P1.27mm; Datasheet: https://www.ti.com/lit/ds/symlink/iso7763.pdf; Description_: Default high, High-speed, robust EMC, reinforced, six-channel, digital, isolator, SOIC-16
pins: 1 Vcc1, 2 INA, 3 INB, 4 INC, 5 IND, 6 OUTE, 7 OUTF, 8 GND1, 9 GND2, 10 INF, 11 INE, 12 OUTD, 13 OUTC, 14 OUTB, 15 OUTA, 16 Vcc2

## ISO7762FDBQ
designator *  value ISO7762FDBQ  Reference: U
Default low, High-speed, robust EMC, reinforced, six-channel, digital, isolator, SSOP-16; ki_keywords: 6 channel digital isolator; ki_fp_filters: SSOP*3.9x4.9mm*P0.635mm*; Footprint: Package_SO:SSOP-16_3.9x4.9mm_P0.635mm; Datasheet: https://www.ti.com/lit/ds/symlink/iso7763.pdf?ts=1596905577895; Description_: Default low, High-speed, robust EMC, reinforced, six-channel, digital, isolator, SSOP-16
pins: 1 Vcc1, 2 INA, 3 INB, 4 INC, 5 IND, 6 OUTE, 7 OUTF, 8 GND1, 9 GND2, 10 INF, 11 INE, 12 OUTD, 13 OUTC, 14 OUTB, 15 OUTA, 16 Vcc2

## ISO7762FDW
designator *  value ISO7762FDW  Reference: U
Default low, High-speed, robust EMC, reinforced, six-channel, digital, isolator, SOIC-16; ki_keywords: 6 channel digital isolator; ki_fp_filters: SOIC*7.5x10.3mm*P1.27mm*; Footprint: Package_SO:SOIC-16W_7.5x10.3mm_P1.27mm; Datasheet: https://www.ti.com/lit/ds/symlink/iso7763.pdf?ts=1596905577895; Description_: Default low, High-speed, robust EMC, reinforced, six-channel, digital, isolator, SOIC-16
pins: 1 Vcc1, 2 INA, 3 INB, 4 INC, 5 IND, 6 OUTE, 7 OUTF, 8 GND1, 9 GND2, 10 INF, 11 INE, 12 OUTD, 13 OUTC, 14 OUTB, 15 OUTA, 16 Vcc2

## ISO7763DBQ
designator *  value ISO7763DBQ  Reference: U
Default high, High-speed, robust EMC, reinforced, six-channel, digital, isolator, SSOP-16; ki_keywords: 6 channel digital isolator; ki_fp_filters: SSOP*3.9x4.9mm*P0.635mm*; Footprint: Package_SO:SSOP-16_3.9x4.9mm_P0.635mm; Datasheet: https://www.ti.com/lit/ds/symlink/iso7763.pdf; Description_: Default high, High-speed, robust EMC, reinforced, six-channel, digital, isolator, SSOP-16
pins: 1 Vcc1, 2 INA, 3 INB, 4 INC, 5 OUTD, 6 OUTE, 7 OUTF, 8 GND1, 9 GND2, 10 INF, 11 INE, 12 IND, 13 OUTC, 14 OUTB, 15 OUTA, 16 Vcc2

## ISO7763DW
designator *  value ISO7763DW  Reference: U
Default high, High-speed, robust EMC, reinforced, six-channel, digital, isolator, SOIC-16; ki_keywords: 6 channel digital isolator; ki_fp_filters: SOIC*7.5x10.3mm*P1.27mm*; Footprint: Package_SO:SOIC-16W_7.5x10.3mm_P1.27mm; Datasheet: https://www.ti.com/lit/ds/symlink/iso7763.pdf; Description_: Default high, High-speed, robust EMC, reinforced, six-channel, digital, isolator, SOIC-16
pins: 1 Vcc1, 2 INA, 3 INB, 4 INC, 5 OUTD, 6 OUTE, 7 OUTF, 8 GND1, 9 GND2, 10 INF, 11 INE, 12 IND, 13 OUTC, 14 OUTB, 15 OUTA, 16 Vcc2

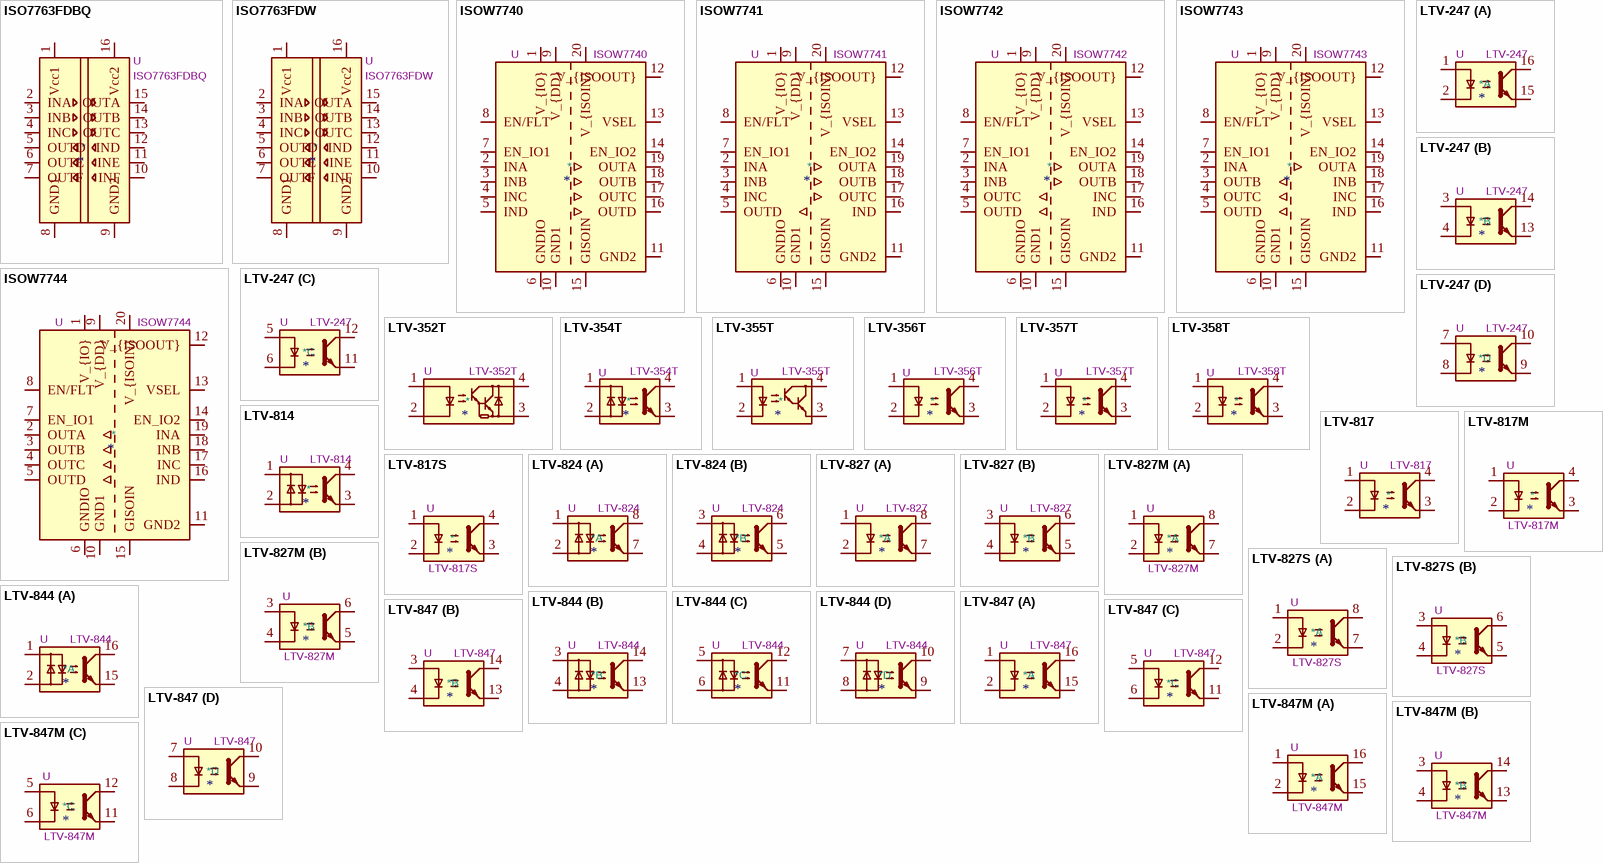
[diagram p4: symbols ISO7763FDBQ to LTV-847M]

## ISO7763FDBQ
designator *  value ISO7763FDBQ  Reference: U
Default low, High-speed, robust EMC, reinforced, six-channel, digital, isolator, SSOP-16; ki_keywords: 6 channel digital isolator; ki_fp_filters: SSOP*3.9x4.9mm*P0.635mm*; Footprint: Package_SO:SSOP-16_3.9x4.9mm_P0.635mm; Datasheet: https://www.ti.com/lit/ds/symlink/iso7763.pdf?ts=1596905577895; Description_: Default low, High-speed, robust EMC, reinforced, six-channel, digital, isolator, SSOP-16
pins: 1 Vcc1, 2 INA, 3 INB, 4 INC, 5 OUTD, 6 OUTE, 7 OUTF, 8 GND1, 9 GND2, 10 INF, 11 INE, 12 IND, 13 OUTC, 14 OUTB, 15 OUTA, 16 Vcc2

## ISO7763FDW
designator *  value ISO7763FDW  Reference: U
Default low, High-speed, robust EMC, reinforced, six-channel, digital, isolator, SOIC-16; ki_keywords: 6 channel digital isolator; ki_fp_filters: SOIC*7.5x10.3mm*P1.27mm*; Footprint: Package_SO:SOIC-16W_7.5x10.3mm_P1.27mm; Datasheet: https://www.ti.com/lit/ds/symlink/iso7763.pdf?ts=1596905577895; Description_: Default low, High-speed, robust EMC, reinforced, six-channel, digital, isolator, SOIC-16
pins: 1 Vcc1, 2 INA, 3 INB, 4 INC, 5 OUTD, 6 OUTE, 7 OUTF, 8 GND1, 9 GND2, 10 INF, 11 INE, 12 IND, 13 OUTC, 14 OUTB, 15 OUTA, 16 Vcc2

## ISOW7740
designator *  value ISOW7740  Reference: U
Quad-Channel 4/0 Digital Isolator with Integrated Low-Emissions, Low-Noise DC-DC Converter, SOIC-20W; ki_keywords: 4-channel-digital-isolator integrated-isolated-supply; ki_fp_filters: SOIC*7.5x12.8mm*P1.27mm*; Footprint: Package_SO:SOIC-20W_7.5x12.8mm_P1.27mm; Datasheet: https://www.ti.com/lit/ds/symlink/isow7741.pdf; Description_: Quad-Channel 4/0 Digital Isolator with Integrated Low-Emissions, Low-Noise DC-DC Converter, SOIC-20W
pins: 1 V_{IO}, 2 INA, 3 INB, 4 INC, 5 IND, 6 GNDIO, 7 EN_IO1, 8 EN/FLT, 9 V_{DD}, 10 GND1, 11 GND2, 12 V_{ISOOUT}, 13 VSEL, 14 EN_IO2, 15 GISOIN, 16 OUTD, 17 OUTC, 18 OUTB, 19 OUTA, 20 V_{ISOIN}

## ISOW7741
designator *  value ISOW7741  Reference: U
Quad-Channel 3/1 Digital Isolator with Integrated Low-Emissions, Low-Noise DC-DC Converter, SOIC-20W; ki_keywords: 4-channel-digital-isolator integrated-isolated-supply; ki_fp_filters: SOIC*7.5x12.8mm*P1.27mm*; Footprint: Package_SO:SOIC-20W_7.5x12.8mm_P1.27mm; Datasheet: https://www.ti.com/lit/ds/symlink/isow7741.pdf; Description_: Quad-Channel 3/1 Digital Isolator with Integrated Low-Emissions, Low-Noise DC-DC Converter, SOIC-20W
pins: 1 V_{IO}, 2 INA, 3 INB, 4 INC, 5 OUTD, 6 GNDIO, 7 EN_IO1, 8 EN/FLT, 9 V_{DD}, 10 GND1, 11 GND2, 12 V_{ISOOUT}, 13 VSEL, 14 EN_IO2, 15 GISOIN, 16 IND, 17 OUTC, 18 OUTB, 19 OUTA, 20 V_{ISOIN}

## ISOW7742
designator *  value ISOW7742  Reference: U
Quad-Channel 2/2 Digital Isolator with Integrated Low-Emissions, Low-Noise DC-DC Converter, SOIC-20W; ki_keywords: 4-channel-digital-isolator integrated-isolated-supply; ki_fp_filters: SOIC*7.5x12.8mm*P1.27mm*; Footprint: Package_SO:SOIC-20W_7.5x12.8mm_P1.27mm; Datasheet: https://www.ti.com/lit/ds/symlink/isow7741.pdf; Description_: Quad-Channel 2/2 Digital Isolator with Integrated Low-Emissions, Low-Noise DC-DC Converter, SOIC-20W
pins: 1 V_{IO}, 2 INA, 3 INB, 4 OUTC, 5 OUTD, 6 GNDIO, 7 EN_IO1, 8 EN/FLT, 9 V_{DD}, 10 GND1, 11 GND2, 12 V_{ISOOUT}, 13 VSEL, 14 EN_IO2, 15 GISOIN, 16 IND, 17 INC, 18 OUTB, 19 OUTA, 20 V_{ISOIN}

## ISOW7743
designator *  value ISOW7743  Reference: U
Quad-Channel 1/3 Digital Isolator with Integrated Low-Emissions, Low-Noise DC-DC Converter, SOIC-20W; ki_keywords: 4-channel-digital-isolator integrated-isolated-supply; ki_fp_filters: SOIC*7.5x12.8mm*P1.27mm*; Footprint: Package_SO:SOIC-20W_7.5x12.8mm_P1.27mm; Datasheet: https://www.ti.com/lit/ds/symlink/isow7741.pdf; Description_: Quad-Channel 1/3 Digital Isolator with Integrated Low-Emissions, Low-Noise DC-DC Converter, SOIC-20W
pins: 1 V_{IO}, 2 INA, 3 OUTB, 4 OUTC, 5 OUTD, 6 GNDIO, 7 EN_IO1, 8 EN/FLT, 9 V_{DD}, 10 GND1, 11 GND2, 12 V_{ISOOUT}, 13 VSEL, 14 EN_IO2, 15 GISOIN, 16 IND, 17 INC, 18 INB, 19 OUTA, 20 V_{ISOIN}

## ISOW7744
designator *  value ISOW7744  Reference: U
Quad-Channel 0/4 Digital Isolator with Integrated Low-Emissions, Low-Noise DC-DC Converter, SOIC-20W; ki_keywords: 4-channel-digital-isolator integrated-isolated-supply; ki_fp_filters: SOIC*7.5x12.8mm*P1.27mm*; Footprint: Package_SO:SOIC-20W_7.5x12.8mm_P1.27mm; Datasheet: https://www.ti.com/lit/ds/symlink/isow7741.pdf; Description_: Quad-Channel 0/4 Digital Isolator with Integrated Low-Emissions, Low-Noise DC-DC Converter, SOIC-20W
pins: 1 V_{IO}, 2 OUTA, 3 OUTB, 4 OUTC, 5 OUTD, 6 GNDIO, 7 EN_IO1, 8 EN/FLT, 9 V_{DD}, 10 GND1, 11 GND2, 12 V_{ISOOUT}, 13 VSEL, 14 EN_IO2, 15 GISOIN, 16 IND, 17 INC, 18 INB, 19 INA, 20 V_{ISOIN}

## LTV-247
designator *  value LTV-247  Reference: U
DC Quad Optocoupler, Vce 80V, CTR 100-600%, SOP-16; ki_keywords: NPN DC Quad Optocoupler; ki_fp_filters: SOP*4.4x10.4mm*P1.27mm*; Footprint: Package_SO:SOP-16_4.4x10.4mm_P1.27mm; Datasheet: http://optoelectronics.liteon.com/upload/download/DS70-2009-0014/LTV-2X7%20sereis%20Mar17.PDF; Description_: DC Quad Optocoupler, Vce 80V, CTR 100-600%, SOP-16
part A pins: 1, 2, 15, 16
part B pins: 3, 4, 13, 14
part C pins: 5, 6, 11, 12
part D pins: 7, 8, 9, 10

## LTV-352T
designator *  value LTV-352T  Reference: U
DC Darlington Optocoupler, Vce 300V, CTR 1000%, SO-4; ki_keywords: NPN Darlington DC Optocoupler; ki_fp_filters: SO*4.4x3.6mm*P2.54mm*; Footprint: Package_SO:SO-4_4.4x3.6mm_P2.54mm; Datasheet: http://optoelectronics.liteon.com/upload/download/DS70-2001-002/S_110_LTV-352T%2020140520.pdf; Description_: DC Darlington Optocoupler, Vce 300V, CTR 1000%, SO-4
pins: 1, 2, 3, 4

## LTV-354T
designator *  value LTV-354T  Reference: U
AC/DC Optocoupler, Vce 35V, CTR 20%, SO-4; ki_keywords: NPN AC DC Optocoupler; ki_fp_filters: SO*4.4x3.6mm*P2.54mm*; Footprint: Package_SO:SO-4_4.4x3.6mm_P2.54mm; Datasheet: http://optoelectronics.liteon.com/upload/download/DS70-2001-004/S_110_LTV-354T%2020140520.pdf; Description_: AC/DC Optocoupler, Vce 35V, CTR 20%, SO-4
pins: 1, 2, 3, 4

## LTV-355T
designator *  value LTV-355T  Reference: U
DC Darlington Optocoupler, Vce 35V, CTR 600%, SO-4; ki_keywords: NPN Darlington DC Optocoupler; ki_fp_filters: SO*4.4x3.6mm*P2.54mm*; Footprint: Package_SO:SO-4_4.4x3.6mm_P2.54mm; Datasheet: http://optoelectronics.liteon.com/upload/download/DS70-2001-006/S_110_LTV-355T%2020140520.pdf; Description_: DC Darlington Optocoupler, Vce 35V, CTR 600%, SO-4
pins: 1, 2, 3, 4

## LTV-356T
designator *  value LTV-356T  Reference: U
DC Optocoupler, Vce 80V, CTR 50%, SO-4; ki_keywords: NPN DC Optocoupler; ki_fp_filters: SO*4.4x3.6mm*P2.54mm*; Footprint: Package_SO:SO-4_4.4x3.6mm_P2.54mm; Datasheet: http://optoelectronics.liteon.com/upload/download/DS70-2001-010/S_110_LTV-356T%2020140520.pdf; Description_: DC Optocoupler, Vce 80V, CTR 50%, SO-4
pins: 1, 2, 3, 4

## LTV-357T
designator *  value LTV-357T  Reference: U
DC Optocoupler, Vce 35V, CTR 50%, SO-4; ki_keywords: NPN DC Optocoupler; ki_fp_filters: SO*4.4x3.6mm*P2.54mm*; Footprint: Package_SO:SO-4_4.4x3.6mm_P2.54mm; Datasheet: https://www.buerklin.com/medias/sys_master/download/download/h91/ha0/8892020588574.pdf; Description_: DC Optocoupler, Vce 35V, CTR 50%, SO-4
pins: 1, 2, 3, 4

## LTV-358T
designator *  value LTV-358T  Reference: U
DC Optocoupler, Vce 120V, CTR 50%, SO-4; ki_keywords: NPN DC Optocoupler; ki_fp_filters: SO*4.4x3.6mm*P2.54mm*; Footprint: Package_SO:SO-4_4.4x3.6mm_P2.54mm; Datasheet: http://optoelectronics.liteon.com/upload/download/DS70-2001-022/S_110_LTV-358T%2020140520.pdf; Description_: DC Optocoupler, Vce 120V, CTR 50%, SO-4
pins: 1, 2, 3, 4

## LTV-814
designator *  value LTV-814  Reference: U
AC/DC Optocoupler, Vce 35V, CTR 20%, DIP4; ki_keywords: NPN AC DC Optocoupler; ki_fp_filters: DIP*W7.62mm*; Footprint: Package_DIP:DIP-4_W7.62mm; Datasheet: https://optoelectronics.liteon.com/upload/download/DS-70-96-0013/LTV-8X4%20series%20201509.pdf; Description_: AC/DC Optocoupler, Vce 35V, CTR 20%, DIP4
pins: 1, 2, 3, 4

## LTV-817
designator *  value LTV-817  Reference: U
DC Optocoupler, Vce 35V, CTR 50%, DIP-4; ki_keywords: NPN DC Optocoupler; ki_fp_filters: DIP*W7.62mm*; Footprint: Package_DIP:DIP-4_W7.62mm; Datasheet: http://www.us.liteon.com/downloads/LTV-817-827-847.PDF; Description_: DC Optocoupler, Vce 35V, CTR 50%, DIP-4
pins: 1, 2, 3, 4

## LTV-817M
designator *  value LTV-817M  Reference: U
DC Optocoupler, Vce 35V, CTR 50%, DIP-4; ki_keywords: NPN DC Optocoupler; ki_fp_filters: DIP*W10.16mm*; Footprint: Package_DIP:DIP-4_W10.16mm; Datasheet: http://www.us.liteon.com/downloads/LTV-817-827-847.PDF; Description_: DC Optocoupler, Vce 35V, CTR 50%, DIP-4
pins: 1, 2, 3, 4

## LTV-817S
designator *  value LTV-817S  Reference: U
DC Optocoupler, Vce 35V, CTR 50%, SMDIP-4; ki_keywords: NPN DC Optocoupler; ki_fp_filters: SMDIP*W9.53mm*; Footprint: Package_DIP:SMDIP-4_W9.53mm; Datasheet: http://www.us.liteon.com/downloads/LTV-817-827-847.PDF; Description_: DC Optocoupler, Vce 35V, CTR 50%, SMDIP-4
pins: 1, 2, 3, 4

## LTV-824
designator *  value LTV-824  Reference: U
Dual AC/DC Optocoupler, Vce 35V, CTR 20%, DIP8; ki_keywords: Dual NPN AC DC Optocoupler; ki_fp_filters: DIP*W7.62mm*; Footprint: Package_DIP:DIP-8_W7.62mm; Datasheet: http://optoelectronics.liteon.com/upload/download/DS-70-96-0013/S_110_LTV-814%20824%20844%20(M,%20S,%20S-TA,%20S-TA1,%20S-TP)%20Series.pdf; Description_: Dual AC/DC Optocoupler, Vce 35V, CTR 20%, DIP8
part A pins: 1, 2, 7, 8
part B pins: 3, 4, 5, 6

## LTV-827
designator *  value LTV-827  Reference: U
Dual DC Optocoupler, Vce 35V, CTR 50%, DIP-8; ki_keywords: NPN DC Dual Optocoupler; ki_fp_filters: DIP*W7.62mm*; Footprint: Package_DIP:DIP-8_W7.62mm; Datasheet: http://optoelectronics.liteon.com/upload/download/DS-70-96-0016/LTV-8X7%20series%20201610%20.pdf; Description_: Dual DC Optocoupler, Vce 35V, CTR 50%, DIP-8
part A pins: 1, 2, 7, 8
part B pins: 3, 4, 5, 6

## LTV-827M
designator *  value LTV-827M  Reference: U
DC Optocoupler, Vce 35V, CTR 50%, DIP-8; ki_keywords: NPN DC Optocoupler; ki_fp_filters: DIP*W10.16mm*; Footprint: Package_DIP:DIP-8_W10.16mm; Datasheet: http://www.us.liteon.com/downloads/LTV-817-827-847.PDF; Description_: DC Optocoupler, Vce 35V, CTR 50%, DIP-8
part A pins: 1, 2, 7, 8
part B pins: 3, 4, 5, 6

## LTV-827S
designator *  value LTV-827S  Reference: U
DC Optocoupler, Vce 35V, CTR 50%, SMDIP-8; ki_keywords: NPN DC Optocoupler; ki_fp_filters: SMDIP*W9.53mm*; Footprint: Package_DIP:SMDIP-8_W9.53mm; Datasheet: http://www.us.liteon.com/downloads/LTV-817-827-847.PDF; Description_: DC Optocoupler, Vce 35V, CTR 50%, SMDIP-8
part A pins: 1, 2, 7, 8
part B pins: 3, 4, 5, 6

## LTV-844
designator *  value LTV-844  Reference: U
Quad AC/DC Optocoupler, Vce 35V, CTR 20%, DIP16; ki_keywords: Quad NPN AC DC Optocoupler; ki_fp_filters: DIP*W7.62mm*; Footprint: Package_DIP:DIP-16_W7.62mm; Datasheet: http://optoelectronics.liteon.com/upload/download/DS-70-96-0013/S_110_LTV-814%20824%20844%20(M,%20S,%20S-TA,%20S-TA1,%20S-TP)%20Series.pdf; Description_: Quad AC/DC Optocoupler, Vce 35V, CTR 20%, DIP16
part A pins: 1, 2, 15, 16
part B pins: 3, 4, 13, 14
part C pins: 5, 6, 11, 12
part D pins: 7, 8, 9, 10

## LTV-847
designator *  value LTV-847  Reference: U
Quad DC Optocoupler, Vce 35V, CTR 50%, DIP-16; ki_keywords: NPN DC Quad Optocoupler; ki_fp_filters: DIP*W7.62mm*; Footprint: Package_DIP:DIP-16_W7.62mm; Datasheet: http://optoelectronics.liteon.com/upload/download/DS-70-96-0016/LTV-8X7%20series.PDF; Description_: Quad DC Optocoupler, Vce 35V, CTR 50%, DIP-16
part A pins: 1, 2, 15, 16
part B pins: 3, 4, 13, 14
part C pins: 5, 6, 11, 12
part D pins: 7, 8, 9, 10

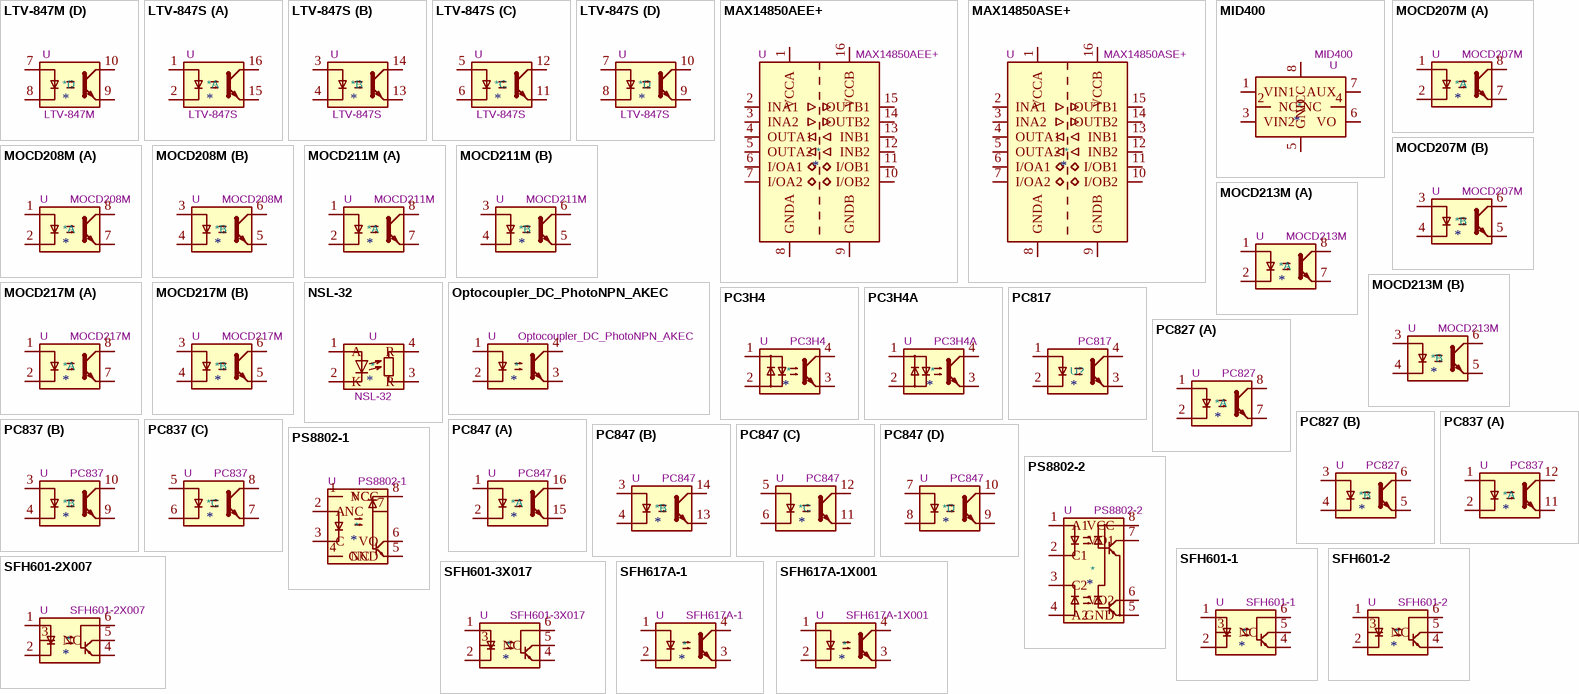
[diagram p5: symbols LTV-847M to SFH617A-1X001]

## LTV-847M
designator *  value LTV-847M  Reference: U
DC Optocoupler, Vce 35V, CTR 50%, DIP-16; ki_keywords: NPN DC Optocoupler; ki_fp_filters: DIP*W10.16mm*; Footprint: Package_DIP:DIP-16_W10.16mm; Datasheet: http://www.us.liteon.com/downloads/LTV-817-827-847.PDF; Description_: DC Optocoupler, Vce 35V, CTR 50%, DIP-16
part A pins: 1, 2, 15, 16
part B pins: 3, 4, 13, 14
part C pins: 5, 6, 11, 12
part D pins: 7, 8, 9, 10

## LTV-847S
designator *  value LTV-847S  Reference: U
DC Optocoupler, Vce 35V, CTR 50%, SMDIP-16; ki_keywords: NPN DC Optocoupler; ki_fp_filters: SMDIP*W9.53mm*; Footprint: Package_DIP:SMDIP-16_W9.53mm; Datasheet: http://www.us.liteon.com/downloads/LTV-817-827-847.PDF; Description_: DC Optocoupler, Vce 35V, CTR 50%, SMDIP-16
part A pins: 1, 2, 15, 16
part B pins: 3, 4, 13, 14
part C pins: 5, 6, 11, 12
part D pins: 7, 8, 9, 10

## MAX14850AEE+
designator *  value MAX14850AEE+  Reference: U
Six-channel digital isolator, bidirectional, 3V3, 5V, QSOP-16; ki_keywords: 6 channel digital isolator bidirectional; ki_fp_filters: QSOP*3.9x4.9mm*P0.635mm*; Footprint: Package_SO:QSOP-16_3.9x4.9mm_P0.635mm; Datasheet: https://datasheets.maximintegrated.com/en/ds/MAX14850.pdf; Description_: Six-channel digital isolator, bidirectional, 3V3, 5V, QSOP-16
pins: 1 VCCA, 2 INA1, 3 INA2, 4 OUTA1, 5 OUTA2, 6 I/OA1, 7 I/OA2, 8 GNDA, 9 GNDB, 10 I/OB2, 11 I/OB1, 12 INB2, 13 INB1, 14 OUTB2, 15 OUTB1, 16 VCCB

## MAX14850ASE+
designator *  value MAX14850ASE+  Reference: U
Six-channel digital isolator, bidirectional, 3V3, 5V, SOIC-16; ki_keywords: 6 channel digital isolator bidirectional; ki_fp_filters: SOIC*3.9x9.9mm?P1.27mm*; Footprint: Package_SO:SOIC-16_3.9x9.9mm_P1.27mm; Datasheet: https://datasheets.maximintegrated.com/en/ds/MAX14850.pdf; Description_: Six-channel digital isolator, bidirectional, 3V3, 5V, SOIC-16
pins: 1 VCCA, 2 INA1, 3 INA2, 4 OUTA1, 5 OUTA2, 6 I/OA1, 7 I/OA2, 8 GNDA, 9 GNDB, 10 I/OB2, 11 I/OB1, 12 INB2, 13 INB1, 14 OUTB2, 15 OUTB1, 16 VCCB

## MID400
designator *  value MID400  Reference: U
AC Line Monitor Logic-Out Device, DIP-8; ki_fp_filters: DIP*W7.62mm*; Footprint: Package_DIP:DIP-8_W7.62mm; Datasheet: https://www.onsemi.com/pub/Collateral/MID400-D.pdf; Description_: AC Line Monitor Logic-Out Device, DIP-8; ki_keywords: AC line monitor
pins: 1 VIN1, 2 NC, 3 VIN2, 4 NC, 5 GND, 6 VO, 7 AUX, 8 VCC

## MOCD207M
designator *  value MOCD207M  Reference: U
8-pin SOIC Dual-Channel Phototransistor Output Optocoupler, VCEO 70V, VF 1.25-1.5V (IF 30mA), CTR 100-200%, SOIC8; ki_keywords: NPN DC Dual Optocoupler; ki_fp_filters: SOIC*3.9*4.9*P1.27mm*; Footprint: Package_SO:SOIC-8_3.9x4.9mm_P1.27mm; Datasheet: https://www.onsemi.com/pdf/datasheet/mocd217m-d.pdf; Description_: 8-pin SOIC Dual-Channel Phototransistor Output Optocoupler, VCEO 70V, VF 1.25-1.5V (IF 30mA), CTR 100-200%, SOIC8
part A pins: 1, 2, 7, 8
part B pins: 3, 4, 5, 6

## MOCD208M
designator *  value MOCD208M  Reference: U
8-pin SOIC Dual-Channel Phototransistor Output Optocoupler, VCEO 70V, VF 1.25-1.5V (IF 30mA), CTR 40-125%, SOIC8; ki_keywords: NPN DC Dual Optocoupler; ki_fp_filters: SOIC*3.9*4.9*P1.27mm*; Footprint: Package_SO:SOIC-8_3.9x4.9mm_P1.27mm; Datasheet: https://www.onsemi.com/pdf/datasheet/mocd217m-d.pdf; Description_: 8-pin SOIC Dual-Channel Phototransistor Output Optocoupler, VCEO 70V, VF 1.25-1.5V (IF 30mA), CTR 40-125%, SOIC8
part A pins: 1, 2, 7, 8
part B pins: 3, 4, 5, 6

## MOCD211M
designator *  value MOCD211M  Reference: U
8-pin SOIC Dual-Channel Phototransistor Output Optocoupler, VCEO 30V, VF 1.25-1.5V (IF 30mA), CTR 20%, SOIC8; ki_keywords: NPN DC Dual Optocoupler; ki_fp_filters: SOIC*3.9*4.9*P1.27mm*; Footprint: Package_SO:SOIC-8_3.9x4.9mm_P1.27mm; Datasheet: https://www.onsemi.com/pdf/datasheet/mocd217m-d.pdf; Description_: 8-pin SOIC Dual-Channel Phototransistor Output Optocoupler, VCEO 30V, VF 1.25-1.5V (IF 30mA), CTR 20%, SOIC8
part A pins: 1, 2, 7, 8
part B pins: 3, 4, 5, 6

## MOCD213M
designator *  value MOCD213M  Reference: U
8-pin SOIC Dual-Channel Phototransistor Output Optocoupler, VCEO 70V, VF 1.15-1.5V (IF 10mA), CTR 100%, SOIC8; ki_keywords: NPN DC Dual Optocoupler; ki_fp_filters: SOIC*3.9*4.9*P1.27mm*; Footprint: Package_SO:SOIC-8_3.9x4.9mm_P1.27mm; Datasheet: https://www.onsemi.com/pdf/datasheet/mocd217m-d.pdf; Description_: 8-pin SOIC Dual-Channel Phototransistor Output Optocoupler, VCEO 70V, VF 1.15-1.5V (IF 10mA), CTR 100%, SOIC8
part A pins: 1, 2, 7, 8
part B pins: 3, 4, 5, 6

## MOCD217M
designator *  value MOCD217M  Reference: U
8-pin SOIC Dual-Channel Phototransistor Output Optocoupler, VCEO 30V, VF 1.05-1.3V (IF 1mA), CTR 100%, SOIC8; ki_keywords: NPN DC Dual Optocoupler; ki_fp_filters: SOIC*3.9*4.9*P1.27mm*; Footprint: Package_SO:SOIC-8_3.9x4.9mm_P1.27mm; Datasheet: https://www.onsemi.com/pdf/datasheet/mocd217m-d.pdf; Description_: 8-pin SOIC Dual-Channel Phototransistor Output Optocoupler, VCEO 30V, VF 1.05-1.3V (IF 1mA), CTR 100%, SOIC8
part A pins: 1, 2, 7, 8
part B pins: 3, 4, 5, 6

## NSL-32
designator *  value NSL-32  Reference: U
Optocoupler, LED Input, Photocell Output; ki_fp_filters: Luna*NSL?32*; Footprint: OptoDevice:Luna_NSL-32; Datasheet: http://lunainc.com/wp-content/uploads/2016/06/NSL-32.pdf; Description_: Optocoupler, LED Input, Photocell Output; ki_keywords: optocoupler
pins: 1 A, 2 K, 3 R, 4 R

## Optocoupler_DC_PhotoNPN_AKEC
designator *  value Optocoupler_DC_PhotoNPN_AKEC  Reference: U
Generic DC optocoupler with NPN phototransistor output, pins order: anode/cathode/emitter/collector; ki_keywords: NPN DC Optocoupler; ki_fp_filters: DIP*W7.62mm*; Datasheet: ~; Description_: Generic DC optocoupler with NPN phototransistor output, pins order: anode/cathode/emitter/collector
pins: 1, 2, 3, 4

## PC3H4
designator *  value PC3H4  Reference: U
AC/DC Optocoupler, Vce 70V, CTR 100-250%, SOP4; ki_keywords: NPN AC DC Optocoupler; ki_fp_filters: SMDIP*W7.62mm*; Footprint: Package_DIP:SMDIP-4_W7.62mm; Datasheet: http://www.sharpsme.com/download/pc3h4-epdf; Description_: AC/DC Optocoupler, Vce 70V, CTR 100-250%, SOP4
pins: 1, 2, 3, 4